# Altium schematic symbol library AD831APZ.SchLib: 1 symbol
Pins are listed as number, name and electrical type; pins without a type are passive.

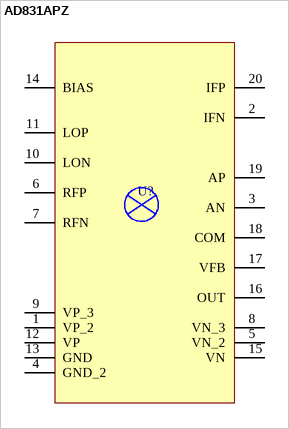
[diagram p0: symbol AD831APZ]

## AD831APZ
designator U?
MP: AD831APZ; MF: Analog Devices; Check_prices: https://www.snapeda.com/parts/AD831APZ/Analog%20Devices/view-part/4335077/?ref=eda; Package: FLATPACK-20 Analog Devices; Price: None; Availability: In Stock; Purchase-URL: https://pricing.snapeda.com/search/part/AD831APZ/?ref=eda; SnapEDA_Link: https://www.snapeda.com/parts/AD831APZ/Analog%20Devices/view-part/4335077/?ref=snap; Value: *
pins: 1 VP_2, 2 IFN, 3 AN, 4 GND_2, 5 VN_2, 6 RFP, 7 RFN, 8 VN_3, 9 VP_3, 10 LON, 11 LOP, 12 VP, 13 GND, 14 BIAS, 15 VN, 16 OUT, 17 VFB, 18 COM, 19 AP, 20 IFP